# EAGLE library part FT232RL_ADAPTER (library 03_device-library)
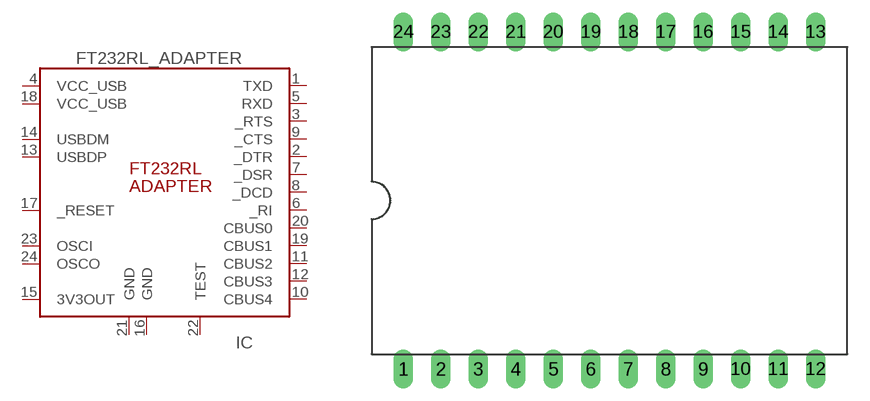
[diagram p1: symbol with the pads of DIL24-9; footprint DIL24-9]

Designator prefix IC

## FT232RL_ADAPTER  [DIL24-9]
1  TXD  out
2  _DTR
3  _RTS  out
4  VCC_USB  pwr
5  RXD  in
6  _RI
7  _DSR
8  _DCD
9  _CTS
10  CBUS4
11  CBUS2
12  CBUS3
13  USBDP
14  USBDM
15  3V3OUT  out
16  GND  pwr
17  _RESET  in
18  VCC_USB  pwr
19  CBUS1
20  CBUS0
21  GND  pwr
22  TEST
23  OSCI
24  OSCO  out

## Footprint DIL24-9 (pad centres in mm)
Dual In Line Package 0.9 inch
drill 0.813 long: 1 -13.97,-11.43; 2 -11.43,-11.43; 3 -8.89,-11.43; 4 -6.35,-11.43; 5 -3.81,-11.43; 6 -1.27,-11.43; 7 1.27,-11.43; 8 3.81,-11.43; 9 6.35,-11.43; 10 8.89,-11.43; 11 11.43,-11.43; 12 13.97,-11.43; 13 13.97,11.43; 14 11.43,11.43; 15 8.89,11.43; 16 6.35,11.43; 17 3.81,11.43; 18 1.27,11.43; 19 -1.27,11.43; 20 -3.81,11.43; 21 -6.35,11.43; 22 -8.89,11.43; 23 -11.43,11.43; 24 -13.97,11.43